# EAGLE library part PIN2X5_FEMALE (library __MyCommonLib1)
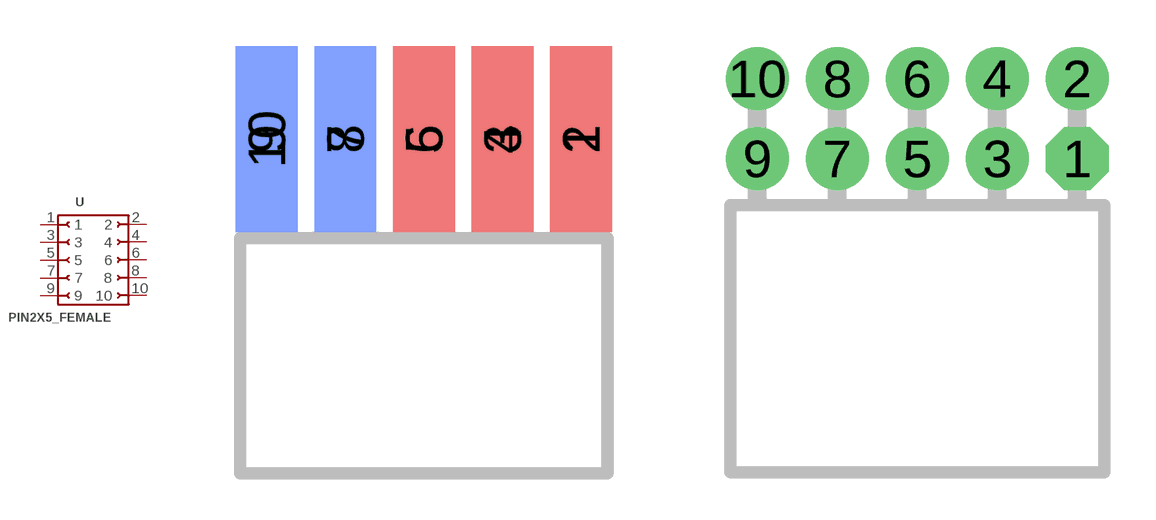
[diagram p4: symbol with the pads of PIN2X5_2.54MM_FEMALE_SIDE_BOARD; footprints PIN2X5_2.54MM_FEMALE_SIDE_BOARD, PIN2X5_2.54MM_FEMALE_RIGHT_ANGLE]

Designator prefix -

## PIN2X5_FEMALE2.54MM_SIDE_BOARD  [PIN2X5_2.54MM_FEMALE_SIDE_BOARD]
1  1
2  2
3  3
4  4
5  5
6  6
7  7
8  8
9  9
10  10

## PIN2X5_FEMALE2.54MM_RIGHT_ANGLE  [PIN2X5_2.54MM_FEMALE_RIGHT_ANGLE]
Pads as for PIN2X5_2.54MM_FEMALE_SIDE_BOARD

## PIN2X5_FEMALE2.54MM_RIGHT_ANGLE_SMALL_PADS  [PIN2X5_2.54MM_FEMALE_RIGHT_ANGLE_SMALL_PADS]
Pads as for PIN2X5_2.54MM_FEMALE_SIDE_BOARD

## Footprint PIN2X5_2.54MM_FEMALE_SIDE_BOARD (pad centres in mm)
smd 2 x 6 bottom: 1 5.08,3; 3 2.54,3; 5 0,3; 7 -2.54,3; 9 -5.08,3
smd 2 x 6: 2 5.08,3; 4 2.54,3; 6 0,3; 8 -2.54,3; 10 -5.08,3

## Footprint PIN2X5_2.54MM_FEMALE_RIGHT_ANGLE (pad centres in mm)
drill 0.8 pad 2 octagon: 1 5.08,1.27
drill 0.8 pad 2: 2 5.08,3.81; 3 2.54,1.27; 4 2.54,3.81; 5 0,1.27; 6 0,3.81; 7 -2.54,1.27; 8 -2.54,3.81; 9 -5.08,1.27; 10 -5.08,3.81

## Footprint PIN2X5_2.54MM_FEMALE_RIGHT_ANGLE_SMALL_PADS (pad centres in mm)
drill 0.7 pad 1.3 offset: 1 5.08,1.27; 2 5.08,3.81; 3 2.54,1.27; 4 2.54,3.81; 5 0,1.27; 6 0,3.81; 7 -2.54,1.27; 8 -2.54,3.81; 9 -5.08,1.27; 10 -5.08,3.81